# Altium schematic symbol library power2pix_sch_lib.SchLib: 4 symbols
Pins are listed as number, name and electrical type; pins without a type are passive.

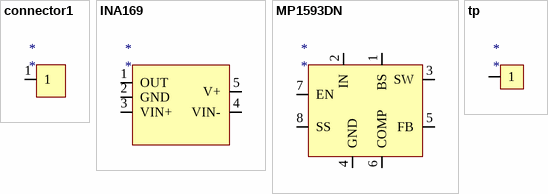
[diagram p0: symbols connector1 to tp]

## connector1
designator *
pins: 1

## INA169
designator *
pins: 1 OUT, 2 GND, 3 VIN+, 4 VIN-, 5 V+

## MP1593DN
designator *
pins: 1 BS, 2 IN, 3 SW, 4 GND, 5 FB, 6 COMP, 7 EN, 8 SS

## tp
designator *
pins: 1